# Altium footprint library Udemy_Library.PcbLib: 35 footprints (part 3 of 3)
Each footprint in its own frame and in the unit in brackets; x right, y up, seen from the top. Pads: shape width x height; smd on the part's side, far side on the other; paste and mask are expansions set on the pad; w line width, h text height; cw(c..) or ccw(c..) is an arc to the next point about the centre after c.
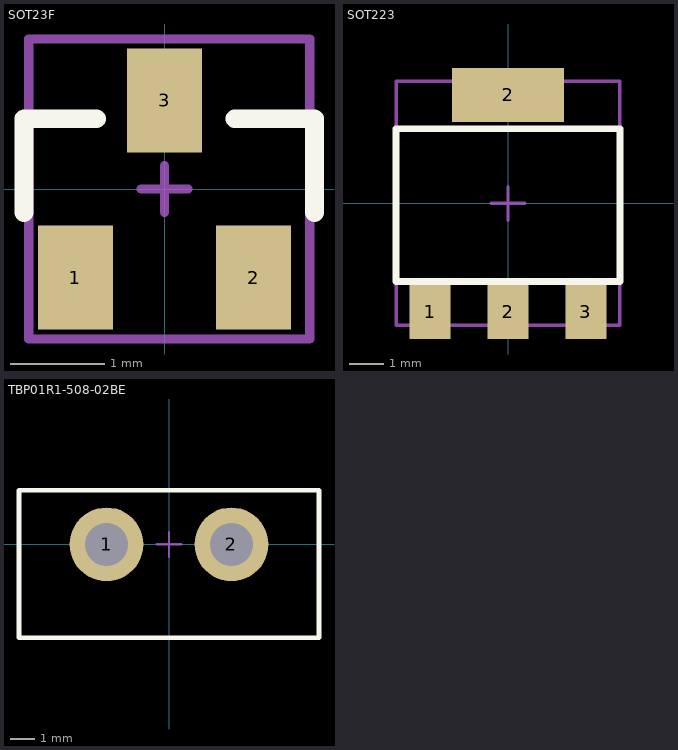
[diagram p2: the footprints below, top view; thin cyan lines are the x and y axes]

## SOT23F [mm]
pads (3):
  rect 0.8x1.11 smd mask+0.05: 1(-0.95,-0.945) 2(0.95,-0.945) 3(0,0.945)
Top Overlay:
  lines w0.2: -1.5,-0.25 -1.5,0.75 -0.725,0.75 ; 0.75,0.75 1.6,0.75 1.6,-0.25
Top Component Center:
  lines w0.1: -0.25,0 0.25,0 ; 0,-0.25 0,0.25 ; -1.45,-1.6 -1.45,1.6 1.55,1.6 1.55,-1.6 -1.45,-1.6
Top Designator:
  lines w0.1: -1.45,-1.6 -1.45,1.6 1.55,1.6 1.55,-1.6 -1.45,-1.6
  text ".Designator" at -0.9,-0.233 h0.5
3D body "SOT-23-3-1.STEP": height 1.1, standoff 0, extent -1.45,-1.287 1.55,1.255

## SOT223 [mm]
pads (4):
  rect 1.2x1.6 smd mask+0.05: 1(-2.3,-3.2) 2(0,-3.2) 3(2.3,-3.2)
  rect 3.3x1.6 smd mask+0.05: 2(0,3.2)
Top Overlay:
  lines w0.2: -3.3,-2.3 3.3,-2.3 3.3,2.2 -3.3,2.2 -3.3,-2.3
Top Component Center:
  lines w0.1: -0.5,0 0.5,0 ; 0,-0.5 0,0.5 ; -3.3,-3.6 3.3,-3.6 3.3,3.6 -3.3,3.6 -3.3,-3.6
Top Designator:
  lines w0.1: -3.3,-3.6 -3.3,3.6 3.3,3.6 3.3,-3.6 -3.3,-3.6
  text ".Designator" at -1.3,-0.05 h0.75
3D body "SOT-223_DIO.step": height 1.65, standoff 0, extent -3.275,-3.55 3.275,3.55

## TBP01R1-508-02BE [mm]
pads (2):
  round 3 hole 1.75 mask+0.05: 1(-2.54,0) 2(2.54,0)
Top Overlay:
  lines w0.2: -6.1,-3.8 -6.1,2.2 6.1,2.2 6.1,-3.8 -6.1,-3.8
Top Component Center:
  lines w0.1: -0.5,0 0.5,0 ; 0,-0.5 0,0.5 ; -6.1,-3.8 -6.1,2.2 6.1,2.2 6.1,-3.8 -6.1,-3.8
Top Designator:
  lines w0.1: -6.1,-3.8 -6.1,2.2 6.1,2.2 6.1,-3.8 -6.1,-3.8
  text ".Designator" at -2,-3.067 h1
3D body "TBP01R1-508-02BE.step": height 8.55, standoff -3.95, extent -5.88,-10 5.88,2